# EAGLE library part DSP1.1 (library nicolas)
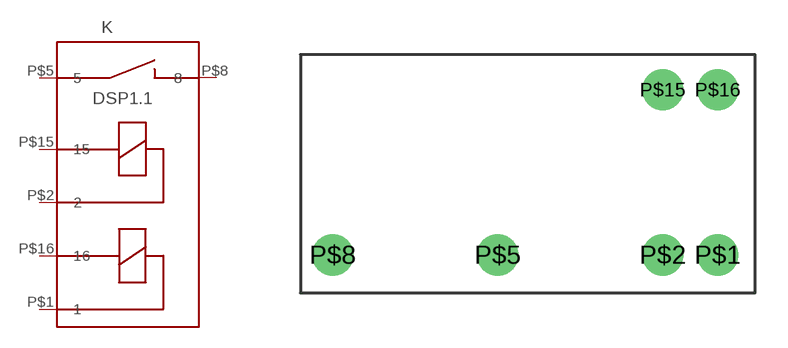
[diagram p0: symbol with the pads of DSP1A; footprint DSP1A]

Designator prefix K

## DSP1.1A  [DSP1A]
P$1  1
P$2  2
P$5  5
P$8  8
P$15  15
P$16  16

## Footprint DSP1A (pad centres in mm)
drill 1.27: P$1 17.78,0; P$2 15.24,0; P$5 7.62,0; P$8 0,0; P$15 15.24,7.62; P$16 17.78,7.62